# EAGLE library part FH12-24S-0.5S (library SobieskiSat2)
0.5mm Pitch Connectors For FPC/FFC Source: Data sheet <http://www.hirose.co.jp/cataloge_hp/e58605370.pdf>
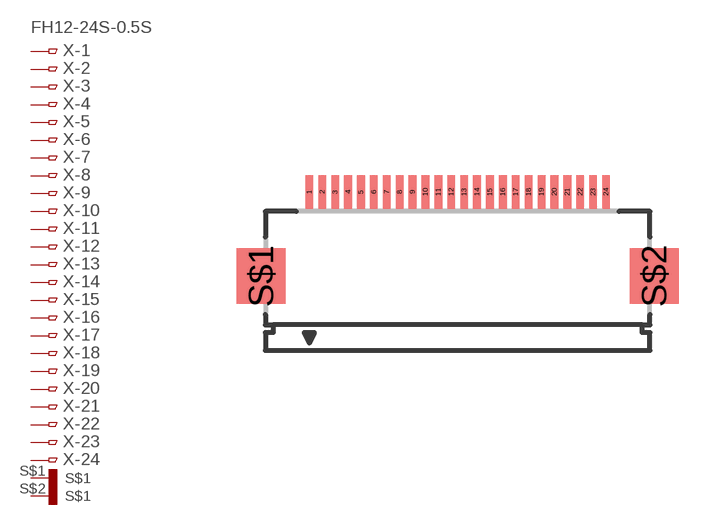
[diagram p23: symbol with the pads of FH12-24S-0.5SH; footprint FH12-24S-0.5SH]

Designator prefix X; gates -1=FH12_PINV -2=FH12_PIN -3=FH12_PIN -4=FH12_PIN -5=FH12_PIN -6=FH12_PIN -7=FH12_PIN -8=FH12_PIN -9=FH12_PIN -10=FH12_PIN -11=FH12_PIN -12=FH12_PIN -13=FH12_PIN -14=FH12_PIN -15=FH12_PIN -16=FH12_PIN -17=FH12_PIN -18=FH12_PIN -19=FH12_PIN -20=FH12_PIN -21=FH12_PIN -22=FH12_PIN -23=FH12_PIN -24=FH12_PIN G$1=FH12_SH G$2=FH12_SH

## FH12-24S-0.5SH (MPN: FH12-24S-0.5SH(55); OC_FARNELL: 1324552; OC_NEWARK: 34M6170)  [FH12-24S-0.5SH]
1  -1:1  pas
2  -2:1  pas
3  -3:1  pas
4  -4:1  pas
5  -5:1  pas
6  -6:1  pas
7  -7:1  pas
8  -8:1  pas
9  -9:1  pas
10  -10:1  pas
11  -11:1  pas
12  -12:1  pas
13  -13:1  pas
14  -14:1  pas
15  -15:1  pas
16  -16:1  pas
17  -17:1  pas
18  -18:1  pas
19  -19:1  pas
20  -20:1  pas
21  -21:1  pas
22  -22:1  pas
23  -23:1  pas
24  -24:1  pas
S$1  G$1:S$1
S$2  G$2:S$1

## Footprint FH12-24S-0.5SH (pad centres in mm)
0.5mm Pitch Connectors For FPC/FFC Source: Data sheet <http://www.hirose.co.jp/cataloge_hp/e58605370.pdf>
smd 0.3 x 1.3: 1 -5.75,3.25; 2 -5.25,3.25; 3 -4.75,3.25; 4 -4.25,3.25; 5 -3.75,3.25; 6 -3.25,3.25; 7 -2.75,3.25; 8 -2.25,3.25; 9 -1.75,3.25; 10 -1.25,3.25; 11 -0.75,3.25; 12 -0.25,3.25; 13 0.25,3.25; 14 0.75,3.25; 15 1.25,3.25; 16 1.75,3.25; 17 2.25,3.25; 18 2.75,3.25; 19 3.25,3.25; 20 3.75,3.25; 21 4.25,3.25; 22 4.75,3.25; 23 5.25,3.25; 24 5.75,3.25
smd 1.905 x 2.159: S$1 -7.62,0; S$2 7.62,0